# Altium footprint library Misc.PcbLib: 7 footprints
Each footprint in its own frame and in the unit in brackets; x right, y up, seen from the top. Pads: shape width x height; smd on the part's side, far side on the other; paste and mask are expansions set on the pad; w line width, h text height; cw(c..) or ccw(c..) is an arc to the next point about the centre after c.
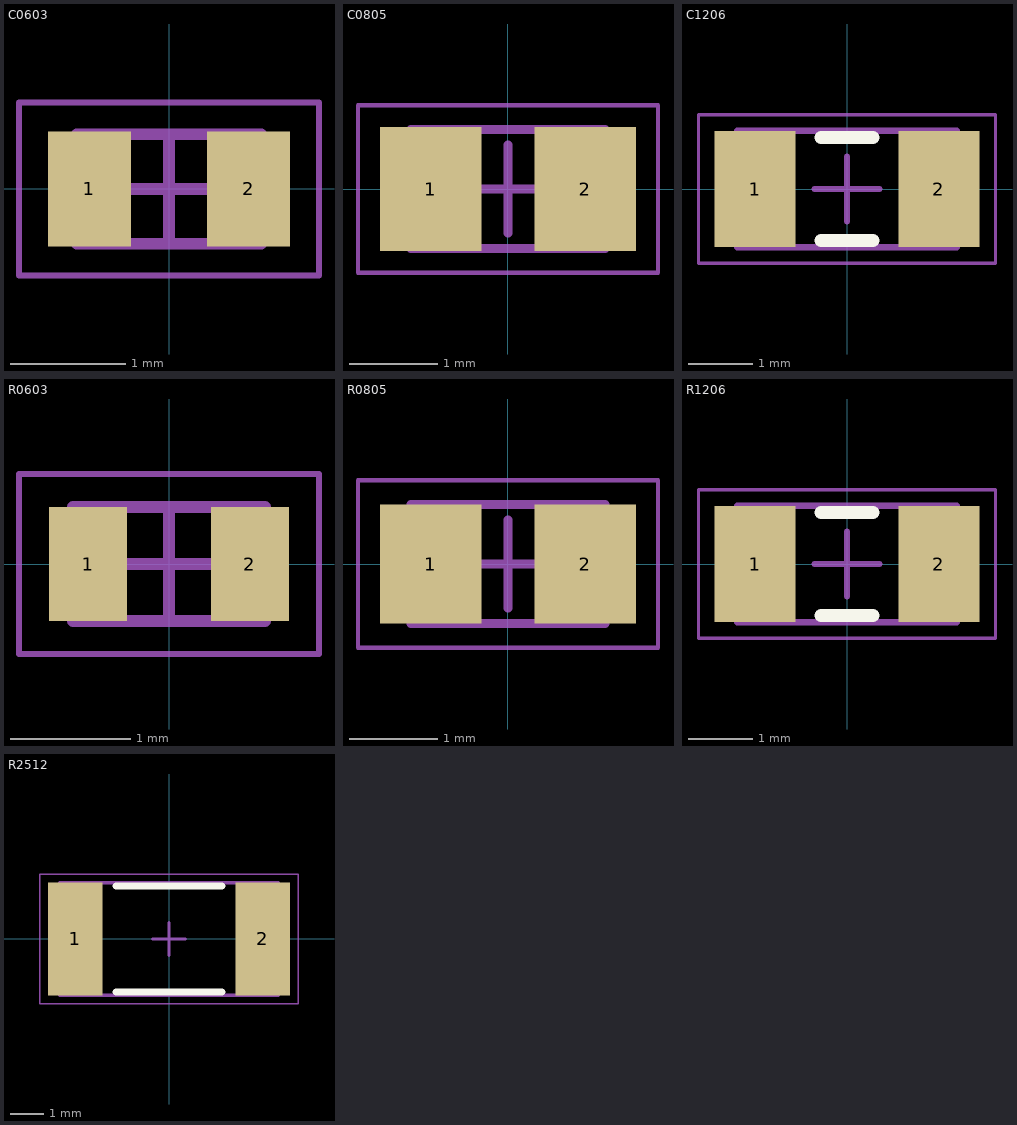
[diagram p0: the footprints below, top view; thin cyan lines are the x and y axes]

## C0603 [mm] "Chip Capacitor, 2-Leads, Body 1,55x0,85mm, IPC Medium Density"
height 0.5
pads (2):
  rect 0.72x1 smd: 1(-0.69,0) 2(0.69,0)
Mechanical 13:
  lines w0.1: -0.8,-0.475 -0.8,0.475 0.8,0.475 0.8,-0.475 -0.8,-0.475
Mechanical 15:
  lines w0.05: -1.3,-0.75 -1.3,0.75 1.3,0.75 1.3,-0.75 -1.3,-0.75
  lines w0.1: -0.475,0 0.475,0 ; 0,-0.475 0,0.475
3D body: height 0.5, standoff 0, extent -0.5,-0.475 0.5,0.475
3D body: height 0.5, standoff 0, extent -0.8,-0.475 -0.5,0.475
3D body: height 0.5, standoff 0, extent 0.5,-0.475 0.8,0.475

## C0805 [mm] "Chip Capacitor, 2-Leads, Body 2,00x1,25mm, IPC Medium Density"
height 0.7
pads (2):
  rect 1.15x1.4 smd: 1(-0.875,0) 2(0.875,0)
Mechanical 13:
  lines w0.1: -1.1,-0.675 -1.1,0.675 1.1,0.675 1.1,-0.675 -1.1,-0.675
Mechanical 15:
  lines w0.05: -1.7,-0.95 -1.7,0.95 1.7,0.95 1.7,-0.95 -1.7,-0.95
  lines w0.1: -0.5,0 0.5,0 ; 0,-0.5 0,0.5
3D body: height 0.7, standoff 0, extent -0.7,-0.675 0.7,0.675
3D body: height 0.7, standoff 0, extent -1.1,-0.675 -0.7,0.675
3D body: height 0.7, standoff 0, extent 0.7,-0.675 1.1,0.675

## C1206 [mm] "Chip Capacitor, 2-Leads, Body 3,20x1,60mm, IPC Medium Density"
height 0.7
pads (2):
  rect 1.25x1.8 smd: 1(-1.425,0) 2(1.425,0)
Top Overlay:
  lines w0.2: -0.4,-0.8 0.4,-0.8 ; -0.4,0.8 0.4,0.8
Mechanical 13:
  lines w0.1: -1.7,-0.9 1.7,-0.9 1.7,0.9 -1.7,0.9 -1.7,-0.9
Mechanical 15:
  lines w0.05: -2.3,-1.15 2.3,-1.15 2.3,1.15 -2.3,1.15 -2.3,-1.15
  lines w0.1: -0.5,0 0.5,0 ; 0,-0.5 0,0.5
3D body: height 0.7, standoff 0, extent 1.2,-0.9 1.7,0.9
3D body: height 0.7, standoff 0, extent -1.7,-0.9 -1.2,0.9
3D body: height 0.7, standoff 0, extent -1.2,-0.9 1.2,0.9

## R0603 [mm] "Chip Resistor, 2-Leads, Body 1,55x0,85mm, IPC Medium Density"
height 0.5
pads (2):
  rect 0.65x0.95 smd: 1(-0.675,0) 2(0.675,0)
Mechanical 13:
  lines w0.1: -0.8,-0.475 -0.8,0.475 0.8,0.475 0.8,-0.475 -0.8,-0.475
Mechanical 15:
  lines w0.05: -1.25,-0.75 -1.25,0.75 1.25,0.75 1.25,-0.75 -1.25,-0.75
  lines w0.1: -0.475,0 0.475,0 ; 0,-0.475 0,0.475
3D body: height 0.5, standoff 0, extent -0.5,-0.475 0.5,0.475
3D body: height 0.5, standoff 0, extent -0.8,-0.475 -0.5,0.475
3D body: height 0.5, standoff 0, extent 0.5,-0.475 0.8,0.475

## R0805 [mm] "Chip Resistor, 2-Leads, Body 2,00x1,25mm, IPC Medium Density"
height 0.7
pads (2):
  rect 1.15x1.35 smd: 1(-0.875,0) 2(0.875,0)
Mechanical 13:
  lines w0.1: -1.1,-0.675 -1.1,0.675 1.1,0.675 1.1,-0.675 -1.1,-0.675
Mechanical 15:
  lines w0.05: -1.7,-0.95 -1.7,0.95 1.7,0.95 1.7,-0.95 -1.7,-0.95
  lines w0.1: -0.5,0 0.5,0 ; 0,-0.5 0,0.5
3D body: height 0.7, standoff 0, extent -0.7,-0.675 0.7,0.675
3D body: height 0.7, standoff 0, extent -1.1,-0.675 -0.7,0.675
3D body: height 0.7, standoff 0, extent 0.7,-0.675 1.1,0.675

## R1206 [mm] "Chip Resistor, 2-Leads, Body 3,20x1,60mm, IPC Medium Density"
height 0.7
pads (2):
  rect 1.25x1.8 smd: 1(-1.425,0) 2(1.425,0)
Top Overlay:
  lines w0.2: -0.4,-0.8 0.4,-0.8 ; -0.4,0.8 0.4,0.8
Mechanical 13:
  lines w0.1: -1.7,-0.9 1.7,-0.9 1.7,0.9 -1.7,0.9 -1.7,-0.9
Mechanical 15:
  lines w0.05: -2.3,-1.15 2.3,-1.15 2.3,1.15 -2.3,1.15 -2.3,-1.15
  lines w0.1: -0.5,0 0.5,0 ; 0,-0.5 0,0.5
3D body: height 0.7, standoff 0, extent 1.2,-0.9 1.7,0.9
3D body: height 0.7, standoff 0, extent -1.7,-0.9 -1.2,0.9
3D body: height 0.7, standoff 0, extent -1.2,-0.9 1.2,0.9

## R2512 [mm] "Chip Resistor, 2-Leads, Body 6,40x3,20mm, IPC Medium Density"
height 0.9
pads (2):
  rect 1.65x3.4 smd: 1(-2.825,0) 2(2.825,0)
Top Overlay:
  lines w0.2: -1.6,-1.6 1.6,-1.6 ; -1.6,1.6 1.6,1.6
Mechanical 13:
  lines w0.1: -3.3,-1.7 3.3,-1.7 3.3,1.7 -3.3,1.7 -3.3,-1.7
Mechanical 15:
  lines w0.05: -3.9,-1.95 3.9,-1.95 3.9,1.95 -3.9,1.95 -3.9,-1.95
  lines w0.1: -0.5,0 0.5,0 ; 0,-0.5 0,0.5
3D body: height 0.9, standoff 0, extent 2.4,-1.7 3.3,1.7
3D body: height 0.9, standoff 0, extent -3.3,-1.7 -2.4,1.7
3D body: height 0.9, standoff 0, extent -2.4,-1.7 2.4,1.7